# EAGLE library part AOZ1280CI (library hybridpi)
1.2A Buck Regulator w/Internal Power Switch Datasheet: AOZ1280CI <http://www.aosmd.com/res/data_sheets/AOZ1280CI.pdf>
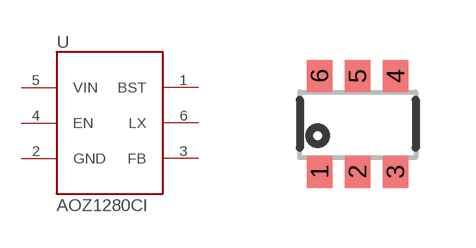
[diagram p1: symbol with the pads of SOT23-6; footprint SOT23-6]

Designator prefix U

## AOZ1280CI (EAGLEUP: SOT23-6)  [SOT23-6]
1  BST
2  GND
3  FB
4  EN
5  VIN
6  LX

## Footprint SOT23-6 (pad centres in mm)
smd 0.63 x 0.8: 1 -0.95,-1.2; 2 0,-1.2; 3 0.95,-1.2; 4 0.95,1.2; 5 0,1.2; 6 -0.95,1.2